# EAGLE library part CONN-01X06 (library tmxk)
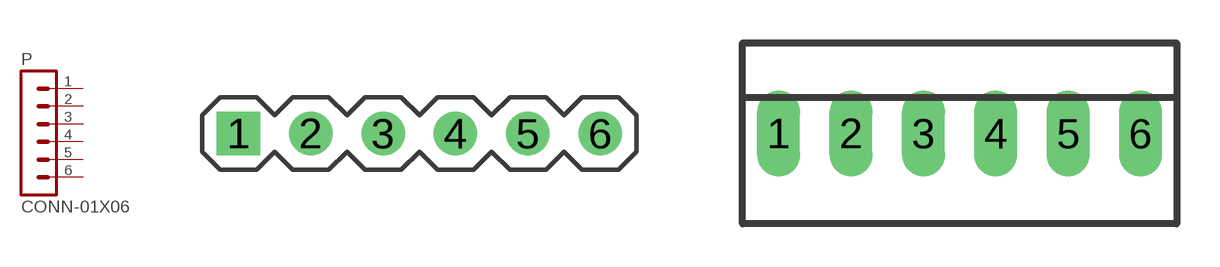
[diagram p11: symbol with the pads of PIN-2.54MM-6P-1; footprints PIN-2.54MM-6P-1, XH2.54-6-DIP]

Designator prefix P

## CONN-01X06DRILL  [PIN-2.54MM-6P-1]
1  1  pas
2  2  pas
3  3  pas
4  4  pas
5  5  pas
6  6  pas

## CONN-01X06XH-2.54  [XH2.54-6-DIP]
Pads as for PIN-2.54MM-6P-1

## CONN-01X06TX-1.25  [TX-1.25-6P]
Pads as for PIN-2.54MM-6P-1

## Footprint PIN-2.54MM-6P-1 (pad centres in mm)
PIN HEADER
drill 1.016 square: 1 -6.35,0
drill 1.016: 2 -3.81,0; 3 -1.27,0; 4 1.27,0; 5 3.81,0; 6 6.35,0

## Footprint XH2.54-6-DIP (pad centres in mm)
.100" (2.54mm) Center Header - 6 Pin
drill 1 long: 1 -6.35,0; 2 -3.81,0; 3 -1.27,0; 4 1.27,0; 5 3.81,0; 6 6.35,0

## Footprint TX-1.25-6P (pad centres in mm)
CONNECTOR wire to board 1.25 mm (.049 inch) pitch header SMT right angle
smd 0.8 x 2: 1 3.125,-2.5; 2 1.875,-2.5; 3 0.625,-2.5; 4 -0.625,-2.5; 5 -1.875,-2.5; 6 -3.125,-2.5
smd 2.1 x 3: S1 5.625,0.625; S2 -5.625,0.625